# Altium footprint library 肖特基二极管.PcbLib: 1 footprints
Each footprint in its own frame and in the unit in brackets; x right, y up, seen from the top. Pads: shape width x height; smd on the part's side, far side on the other; paste and mask are expansions set on the pad; w line width, h text height; cw(c..) or ccw(c..) is an arc to the next point about the centre after c.
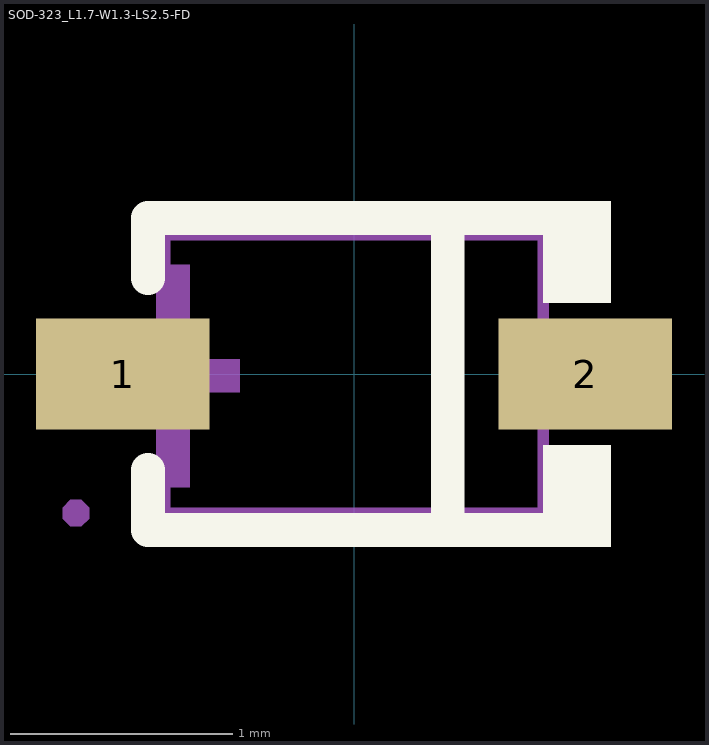
[diagram p0: the footprint, top view; thin cyan lines are the x and y axes]

## SOD-323_L1.7-W1.3-LS2.5-FD [mm]
pads (2):
  rect 0.78x0.5 smd: 1(-1.04,0) 2(1.04,0)
Top Overlay:
  region: 0.85,-0.32 1.155,-0.32 1.155,-0.777 0.85,-0.777
  region: 0.85,0.32 1.155,0.32 1.155,0.777 0.85,0.777
  lines w0.152: -0.926,-0.43 -0.926,-0.701 0.926,-0.701 ; -0.926,0.43 -0.926,0.701 0.926,0.701 ; 0.421,-0.701 0.421,0.701
Mechanical 6:
  region: -0.889,-0.508 -0.889,0.492 -0.739,0.492 -0.739,-0.508
  region: 1.316,-0.075 1.316,0.075 0.716,0.075 0.716,-0.075
  region: -1.114,-0.083 -1.114,0.067 -0.514,0.067 -0.514,-0.083
Mechanical 15:
  region: 0.96,-0.16 0.84,-0.16 0.84,0.16 0.96,0.16
  region: 1.25,-0.16 0.95,-0.16 0.95,0.16 1.25,0.16
  region: -0.96,-0.16 -0.84,-0.16 -0.84,0.16 -0.96,0.16
  region: -1.25,-0.16 -0.95,-0.16 -0.95,0.16 -1.25,0.16
  region: -1.19,-0.625 -1.19,-0.65 -1.225,-0.685 -1.275,-0.685 -1.31,-0.65 -1.31,-0.625 -1.31,-0.6 -1.275,-0.565 -1.225,-0.565 -1.19,-0.6 -1.19,-0.625
  lines w0.051: -0.85,-0.625 -0.85,0.625 0.85,0.625 0.85,-0.625 -0.85,-0.625